# Altium footprint library RCJ-017.PcbLib: 1 footprints
Each footprint in its own frame and in the unit in brackets; x right, y up, seen from the top. Pads: shape width x height; smd on the part's side, far side on the other; paste and mask are expansions set on the pad; w line width, h text height; cw(c..) or ccw(c..) is an arc to the next point about the centre after c.
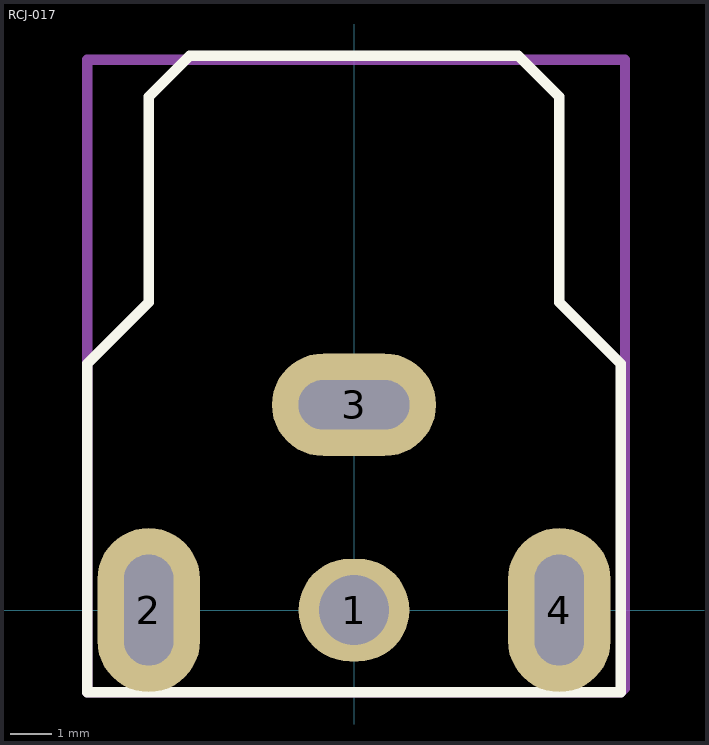
[diagram p0: the footprint, top view; thin cyan lines are the x and y axes]

## RCJ-017 [mm]
height 0.9
pads (4):
  oval 2.7x2.5 hole 1.7: 1(0,0)
  oval 2.5x4 hole 1.2 slot 2.7 at 90 deg: 2(-5,0) 4(5,0)
  oval 4x2.5 hole 1.2 slot 2.7 at 0 deg: 3(0,5)
Top Overlay:
  lines w0.254: -6.5,-2 6.5,-2 6.5,6 5,7.5 5,12.5 4,13.5 -4,13.5 -5,12.5 -5,7.5 -6.5,6 -6.5,-2
Top Assembly:
  lines w0.254: -6.5,-2 -6.5,13.4 6.6,13.4 6.6,-1.9 6.5,-2 -6.5,-2
  text "'.Designator'" at -0.95,-0.425 h0.7
3D body "CUI_DEVICES_RCJ-017.step": height 12.1, standoff -4.5, extent -5.8,-1.2 5.8,13.3